# EAGLE library part JLINK_SWO (library carrilib)
Pinout for a JLink ARM Debugger in SWD Mode Manufacturer: Generic Part Number: 20 Pin, .1" Spacing
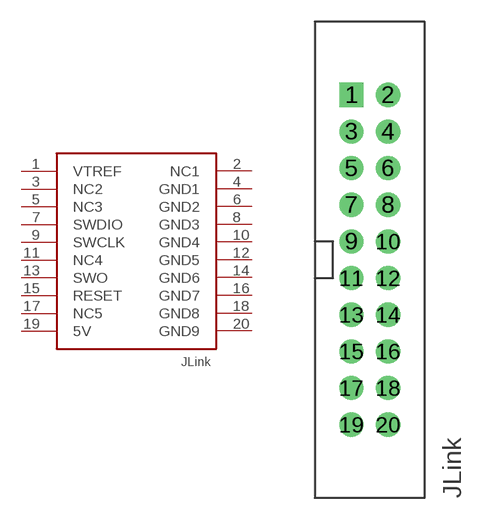
[diagram p1: symbol with the pads of DIP20; footprint DIP20]

Designator prefix CON

## JLINK_SWO  [DIP20]
1  VTREF
2  NC1
3  NC2
4  GND1
5  NC3
6  GND2
7  SWDIO
8  GND3
9  SWCLK
10  GND4
11  NC4
12  GND5
13  SWO
14  GND6
15  RESET
16  GND7
17  NC5
18  GND8
19  5V
20  GND9

## Footprint DIP20 (pad centres in mm)
drill 1.118 square: 1 0,0
drill 1.118: 2 2.54,0; 3 0,-2.54; 4 2.54,-2.54; 5 0,-5.08; 6 2.54,-5.08; 7 0,-7.62; 8 2.54,-7.62; 9 0,-10.16; 10 2.54,-10.16; 11 0,-12.7; 12 2.54,-12.7; 13 0,-15.24; 14 2.54,-15.24; 15 0,-17.78; 16 2.54,-17.78; 17 0,-20.32; 18 2.54,-20.32; 19 0,-22.86; 20 2.54,-22.86